# Altium schematic symbol library TI LMR62014.SchLib: 1 symbol
Pins are listed as number, name and electrical type; pins without a type are passive.

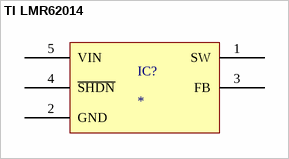
[diagram p0: symbol TI LMR62014]

## TI LMR62014
designator IC?
pins: 1 SW, 2 GND, 3 FB, 4 ~{SHDN}, 5 VIN